# Altium footprint library SPINNER_TWIN_STARS.PcbLib: 46 footprints (part 2 of 3)
Each footprint in its own frame and in the unit in brackets; x right, y up, seen from the top. Pads: shape width x height; smd on the part's side, far side on the other; paste and mask are expansions set on the pad; w line width, h text height; cw(c..) or ccw(c..) is an arc to the next point about the centre after c.
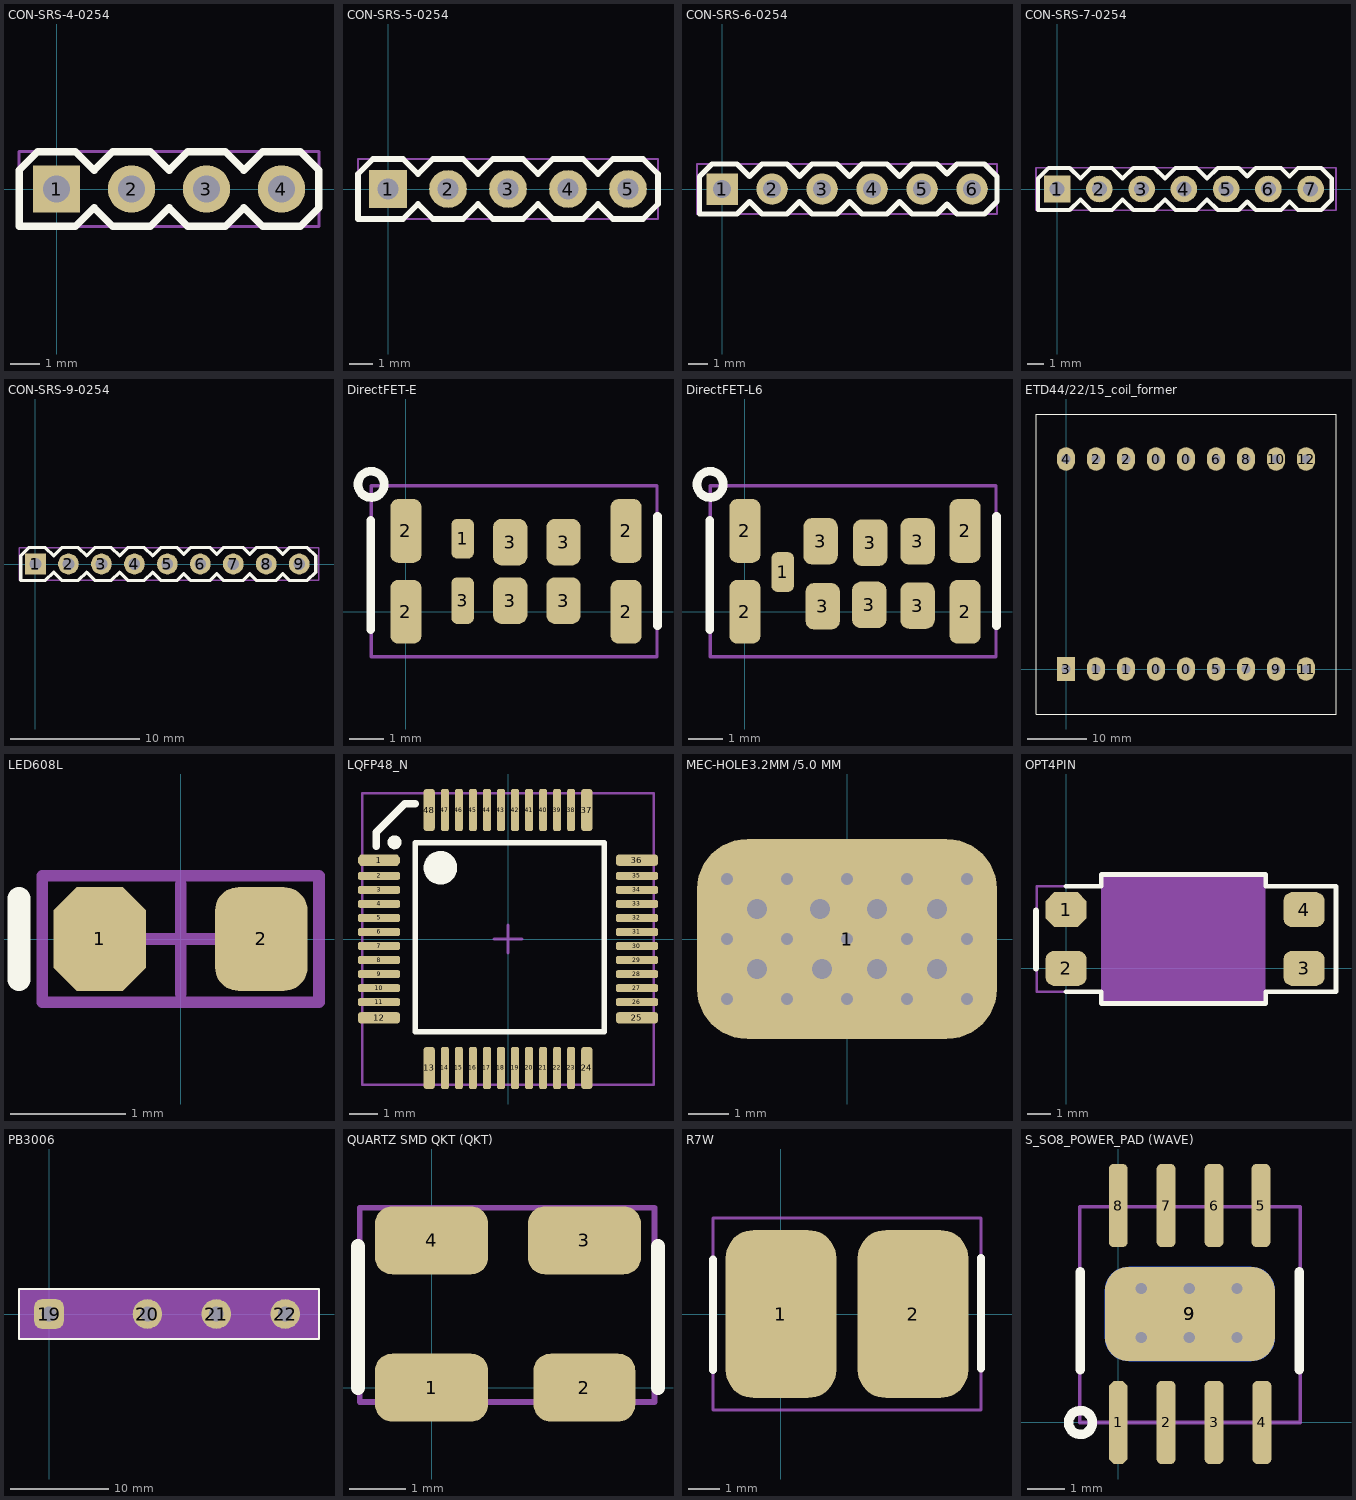
[diagram p1: the footprints below, top view; thin cyan lines are the x and y axes]

## CON-SRS-4-0254 [mil]
pads (4):
  rect 63x63 hole 35.43 paste+0 mask+8: 1(0,0)
  round 63 hole 35.43 paste+0 mask+8: 2(100,0) 3(200,0) 4(300,0)
Top silk:
  lines w10: -50,-50 -50,25 -25,50 25,50 50,25 75,50 125,50 150,25 175,50 225,50 250,25 275,50 325,50 350,25 350,-25 325,-50 275,-50 250,-25 225,-50 175,-50 150,-25 125,-50 75,-50 50,-25 25,-50 -50,-50
Mechanical 15:
  lines w3.94: -50,-50 -50,50 350,50 350,-50 -50,-50

## CON-SRS-5-0254 [mil]
pads (5):
  rect 63x63 hole 35.43 paste+0 mask+8: 1(0,0)
  round 63 hole 35.43 paste+0 mask+8: 2(100,0) 3(200,0) 4(300,0) 5(400,0)
Top silk:
  lines w10: -50,-50 25,-50 50,-25 75,-50 125,-50 150,-25 175,-50 225,-50 250,-25 275,-50 325,-50 350,-25 375,-50 425,-50 450,-25 450,25 425,50 375,50 350,25 325,50 275,50 250,25 225,50 175,50 150,25 125,50 75,50 50,25 25,50 -25,50 -50,25 -50,-50
Mechanical 15:
  lines w3.94: -50,-50 450,-50 450,50 -50,50 -50,-50

## CON-SRS-6-0254 [mil]
pads (6):
  rect 63x63 hole 35.43 paste+0 mask+8: 1(0,0)
  round 63 hole 35.43 paste+0 mask+8: 2(100,0) 3(200,0) 4(300,0) 5(400,0) 6(500,0)
Top silk:
  lines w10: -45,-50 30,-50 55,-25 80,-50 130,-50 155,-25 180,-50 230,-50 255,-25 280,-50 330,-50 355,-25 380,-50 430,-50 450,-30 470,-50 525,-50 550,-25 550,25 525,50 470,50 450,30 430,50 380,50 355,25 330,50 280,50 255,25 230,50 180,50 155,25 130,50 80,50 55,25 30,50 -20,50 -45,25 -45,-50
Mechanical 15:
  lines w3.94: -50,-50 550,-50 550,50 -50,50 -50,-50

## CON-SRS-7-0254 [mil]
pads (7):
  rect 63x63 hole 35.43 paste+0 mask+8: 1(0,0)
  round 63 hole 35.43 paste+0 mask+8: 2(100,0) 3(200,0) 4(300,0) 5(400,0) 6(500,0) 7(600,0)
Top silk:
  lines w10: -45,-50 -45,25 -20,50 30,50 55,25 80,50 130,50 155,25 180,50 230,50 255,25 280,50 330,50 355,25 380,50 430,50 450,30 470,50 530,50 550,30 570,50 625,50 650,25 650,-25 625,-50 570,-50 550,-30 530,-50 470,-50 450,-30 430,-50 380,-50 355,-25 330,-50 280,-50 255,-25 230,-50 180,-50 155,-25 130,-50 80,-50 55,-25 30,-50 -45,-50
Mechanical 15:
  lines w3.94: -50,-50 -50,50 660,50 660,-50 -50,-50

## CON-SRS-9-0254 [mil]
pads (9):
  rect 63x63 hole 35.43 paste+0 mask+8: 1(0,0)
  round 63 hole 35.43 paste+0 mask+8: 2(100,0) 3(200,0) 4(300,0) 5(400,0) 6(500,0) 7(600,0) 8(700,0) 9(800,0)
Top silk:
  lines w10: -45,-50 -45,25 -20,50 30,50 55,25 80,50 130,50 155,25 180,50 230,50 255,25 280,50 330,50 355,25 380,50 430,50 450,30 470,50 530,50 550,30 570,50 630,50 650,30 670,50 730,50 750,30 770,50 825,50 850,25 850,-25 825,-50 770,-50 750,-30 730,-50 670,-50 650,-30 630,-50 570,-50 550,-30 530,-50 470,-50 450,-30 430,-50 380,-50 355,-25 330,-50 280,-50 255,-25 230,-50 180,-50 155,-25 130,-50 80,-50 55,-25 30,-50 -45,-50
Mechanical 15:
  lines w3.94: -50,-50 -50,50 860,50 860,-50 -50,-50

## DirectFET-E [mm]
height 0.7
pads (10):
  rrect50% 0.65x1.15 smd: 1(1.65,2.125)
  rrect50% 0.9x1.85 smd: 2(0,0) 2(0,2.35) 2(6.4,0) 2(6.4,2.35)
  rrect50% 0.65x1.35 smd: 3(1.65,0.325)
  rrect50% 1x1.35 smd: 3(3.03,0.325) 3(3.03,2.025) 3(4.58,0.325) 3(4.58,2.025)
Top silk:
  circle w0.254: c-1.01,3.703 r0.381
  lines w0.254: -1.02,-0.514 -1.02,2.661 ; 7.313,-0.402 7.313,2.773
Mechanical 15:
  lines w0.1: -1.009,-1.306 7.296,-1.306 7.296,3.665 -1.009,3.665 -1.009,-1.306

## DirectFET-L6 [mm]
height 0.7
pads (11):
  rrect50% 0.65x1.15 smd: 1(1.099,1.156)
  rrect50% 0.9x1.85 smd: 2(0,0) 2(0,2.35) 2(6.4,0) 2(6.4,2.35)
  rrect50% 1x1.35 smd: 3(2.2,2.049) 3(2.261,0.16) 3(3.614,0.201) 3(3.644,2.008) 3(5.017,0.181) 3(5.017,2.049)
Top silk:
  circle w0.254: c-1.01,3.703 r0.381
  lines w0.254: -1.02,-0.514 -1.02,2.661 ; 7.313,-0.402 7.313,2.773
Mechanical 15:
  lines w0.1: -1.009,-1.306 7.296,-1.306 7.296,3.665 -1.009,3.665 -1.009,-1.306

## ETD44/22/15_coil_former [mm]
height 38
pads (18):
  oval 3x4 hole 1.6: 0(15.24,0) 0(15.24,35.56) 0(20.32,0) 0(20.32,35.56) 2(5.08,35.56) 2(10.16,35.56) 4(0,35.56) 5(25.4,0) 6(25.4,35.56) 7(30.48,0) 8(30.48,35.56) 9(35.56,0) 10(35.56,35.56) 11(40.64,0) 12(40.64,35.56)
  oval 3x4 hole 1.6 paste+0 mask+0.203: 1(5.08,0) 1(10.16,0)
  rect 3x4 hole 1.6 paste+0 mask+0.203: 3(0,0)
Top silk:
  lines w0.2: -5.08,-7.62 -5.08,43.18 45.72,43.18 45.72,-7.62 -5.08,-7.62
3D body: height 38, standoff 0, extent -4.064,-6.604 44.704,42.164

## LED608L [mm] "Chip LED, Body 1.6x0.8mm, IPC High Density"
height 0.55
pads (2):
  oct 0.8x0.9 smd: 1(-0.7,0)
  rrect50% 0.8x0.9 smd: 2(0.7,0)
Top silk:
  lines w0.2: -1.4,-0.35 -1.4,0.35
Mechanical 15:
  lines w0.1: -0.475,0 0.475,0 ; 0,-0.475 0,0.475 ; -1.2,-0.55 -1.2,0.55 1.2,0.55 1.2,-0.55 -1.2,-0.55

## LQFP48_N [mm] "Thin QFP, 48-Leads, Body 7x7mm, Pitch 0.5mm, IPC Medium Density"
height 1.6
pads (48):
  oct 1.5x0.4 smd paste+0: 1(-4.6,2.81)
  rrect50% 1.5x0.28 smd paste+0: 2(-4.6,2.25) 3(-4.6,1.75) 4(-4.6,1.25) 5(-4.6,0.75) 6(-4.6,0.25) 7(-4.6,-0.25) 8(-4.6,-0.75) 9(-4.6,-1.25) 10(-4.6,-1.75) 11(-4.6,-2.25) 26(4.6,-2.25) 27(4.6,-1.75) 28(4.6,-1.25) 29(4.6,-0.75) 30(4.6,-0.25) 31(4.6,0.25) 32(4.6,0.75) 33(4.6,1.25) 34(4.6,1.75) 35(4.6,2.25)
  rrect50% 1.5x0.4 smd paste+0: 12(-4.6,-2.81) 25(4.6,-2.81) 36(4.6,2.81)
  rrect50% 0.4x1.5 smd paste+0: 13(-2.81,-4.6) 24(2.81,-4.6) 37(2.81,4.6) 48(-2.81,4.6)
  rrect50% 0.28x1.5 smd paste+0: 14(-2.25,-4.6) 15(-1.75,-4.6) 16(-1.25,-4.6) 17(-0.75,-4.6) 18(-0.25,-4.6) 19(0.25,-4.6) 20(0.75,-4.6) 21(1.25,-4.6) 22(1.75,-4.6) 23(2.25,-4.6) 38(2.25,4.6) 39(1.75,4.6) 40(1.25,4.6) 41(0.75,4.6) 42(0.25,4.6) 43(-0.25,4.6) 44(-0.75,4.6) 45(-1.25,4.6) 46(-1.75,4.6) 47(-2.25,4.6)
Top silk:
  circle w0.6: c-2.413,2.54 r0.3
  circle w0.25: c-4.05,3.45 r0.125
  lines w0.2: -3.302,-3.302 3.429,-3.302 3.429,3.429 -3.302,3.429 -3.302,-3.302
  lines w0.254: -4.699,3.302 -4.699,3.81 -3.683,4.826 -3.302,4.826
Mechanical 15:
  lines w0.1: -0.5,0 0.5,0 ; 0,-0.5 0,0.5 ; -5.2,-5.2 5.2,-5.2 5.2,5.2 -5.2,5.2 -5.2,-5.2

## MEC-HOLE3.2MM /5.0 MM [mm]
pads (1):
  rrect50% 7.5x5 hole 0.3: 1(0,0)
via 2.25,-0.75 diameter 0.5 hole 0.5
via 2.25,0.75 diameter 0.5 hole 0.5
via 0.75,-0.75 diameter 0.5 hole 0.5
via 0.75,0.75 diameter 0.5 hole 0.5
via -0.623,-0.75 diameter 0.5 hole 0.5
via -0.672,0.75 diameter 0.5 hole 0.5
via -2.25,-0.75 diameter 0.5 hole 0.5
via -2.25,0.75 diameter 0.5 hole 0.5
via 3,1.5 diameter 0.3 hole 0.3
via 3,0 diameter 0.3 hole 0.3
via 3,-1.5 diameter 0.3 hole 0.3
via -3,-1.5 diameter 0.3 hole 0.3
via -3,0 diameter 0.3 hole 0.3
via -3,1.5 diameter 0.3 hole 0.3
via -1.5,1.5 diameter 0.3 hole 0.3
via 0,1.5 diameter 0.3 hole 0.3
via 1.5,1.5 diameter 0.3 hole 0.3
via 1.5,0 diameter 0.3 hole 0.3
via -1.5,0 diameter 0.3 hole 0.3
via -1.5,-1.5 diameter 0.3 hole 0.3
via 0,-1.5 diameter 0.3 hole 0.3
via 1.5,-1.5 diameter 0.3 hole 0.3

## OPT4PIN [mm] "OPTO COUPLER 4 PIN"
pads (4):
  oct 1.78x1.52 smd paste+0 mask+0.127: 1(0,2.54)
  rrect50% 1.78x1.52 smd paste+0 mask+0.127: 2(0,0) 3(10.3,0) 4(10.3,2.54)
Top silk:
  lines w0.2: 0,-1.016 1.524,-1.016 1.524,-1.524 8.636,-1.524 8.636,-1.016 11.684,-1.016 11.684,3.556 8.636,3.556 8.636,4.064 1.524,4.064 1.524,3.556 0,3.556
  lines w0.254: -1.3,0 -1.3,2.5
Mechanbical 1:
  rectangle: 1.524,-1.524 8.636,4.064
Mechanical 15:
  lines w0.1: -1.27,-1.016 11.684,-1.016 11.684,3.556 -1.27,3.556 -1.27,-1.016
3D body: height 4, standoff 0, extent 1.524,-1.524 8.636,4.064

## PB3006 [mm] "Bridge Rectifier"
pads (4):
  rrect50% 3x3 hole 1.5: 19(0,0)
  round 3 hole 1.5: 20(10,0) 21(17,0) 22(24,0)
Top silk:
  lines w0.2: -3.048,-2.54 -3.048,2.54 27.432,2.54 27.432,-2.54 -3.048,-2.54
Mechanical 15:
  rectangle: -3.048,-2.54 27.432,2.54
3D body: height 20, standoff 0, extent -3.048,-2.54 27.432,2.54

## QUARTZ SMD QKT (QKT) [mm]
pads (4):
  rrect50% 2x1.2 smd paste+0 mask+0.127: 1(0,0) 3(2.7,2.6) 4(0,2.6)
  rrect50% 1.8x1.2 smd paste+0 mask+0.127: 2(2.7,0)
Top silk:
  lines w0.254: -1.3,0 -1.3,2.5 ; 4,0 4,2.5
Mechanical 15:
  lines w0.1: -1.27,-0.254 3.937,-0.254 3.937,3.175 -1.27,3.175 -1.27,-0.254

## R7W [mm]
pads (2):
  rrect50% 3.51x5.33 smd paste-0.05 mask+0.1: 1(0,0) 2(4.191,0)
Top silk:
  lines w0.254: -2.159,-1.778 -2.159,1.722 ; 6.35,-1.722 6.35,1.778
Mechanical 15:
  lines w0.1: 0.762,0 1.651,0 ; 1.27,-0.508 1.27,0.635 ; -2.159,-3.048 -2.159,3.048 6.35,3.048 6.35,-3.048 -2.159,-3.048

## S_SO8_POWER_PAD (WAVE) [mm]
pads (10):
  oct 0.5x2.2 smd: 1(0,0)
  rrect50% 0.5x2.2 smd: 2(1.27,0) 3(2.54,0) 4(3.81,0) 5(3.781,5.75) 6(2.54,5.75) 7(1.27,5.75) 8(0,5.75)
  rrect50% 4.5x2.5 smd paste-2 mask-2: 9(1.9,2.875)
  rrect50% 4.5x2.5 smd far side paste-100: 9(1.9,2.875)
via 3.15,2.25 diameter 0.3 hole 0.3
via 3.15,3.55 diameter 0.3 hole 0.3
via 1.88,3.55 diameter 0.3 hole 0.3
via 1.88,2.25 diameter 0.3 hole 0.3
via 0.61,2.25 diameter 0.3 hole 0.3
via 0.61,3.55 diameter 0.3 hole 0.3
Top silk:
  circle w0.254: c-1,0 r0.316
  lines w0.254: -1,1.4 -1,4 ; 4.8,1.4 4.8,4
Top Paste:
  rectangle: 0.35,1.65 3.45,4.1
Top Solder Resist:
  rectangle: -0.55,1.4 4.35,4.35
Mechanical 15:
  lines w0.1: -1.016,0 4.826,0 4.826,5.715 -1.016,5.715 -1.016,0